# Altium footprint library Vishay Draloric Ceramic Tubular Capacitor.PcbLib: 65 footprints (part 5 of 5)
Each footprint in its own frame and in the unit in brackets; x right, y up, seen from the top. Pads: shape width x height; smd on the part's side, far side on the other; paste and mask are expansions set on the pad; w line width, h text height; cw(c..) or ccw(c..) is an arc to the next point about the centre after c.
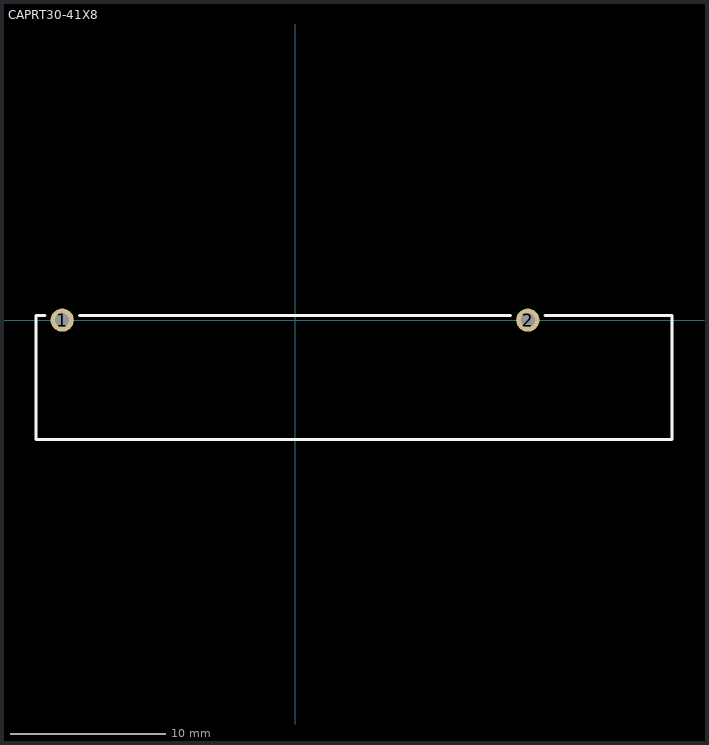
[diagram p4: the footprint, top view; thin cyan lines are the x and y axes]

## CAPRT30-41X8 [mm] "Capacitor, Ceramic, Thu-Hole, Tubular; Body 41 x 8 mm (LxDia. max) Pin Spacing 30 mm (typ)"
height 11
pads (2):
  round 1.5 hole 0.9: 1(-15,0) 2(15,0)
Top Overlay:
  lines w0.2: -16.11,0.3 -16.7,0.3 -16.7,-7.7 24.3,-7.7 24.3,0.3 16.11,0.3 ; -13.89,0.3 13.89,0.3